# EAGLE library part LPC1517BJD48 (library lpclib)
LPC1517BJD48 First try at a LPC1517 chip for use in a motor driver Datasheet <http://www.nxp.com/documents/data_sheet/LPC15XX.pdf> User manual <http://www.nxp.com/documents/user_manual/UM10736.pdf>
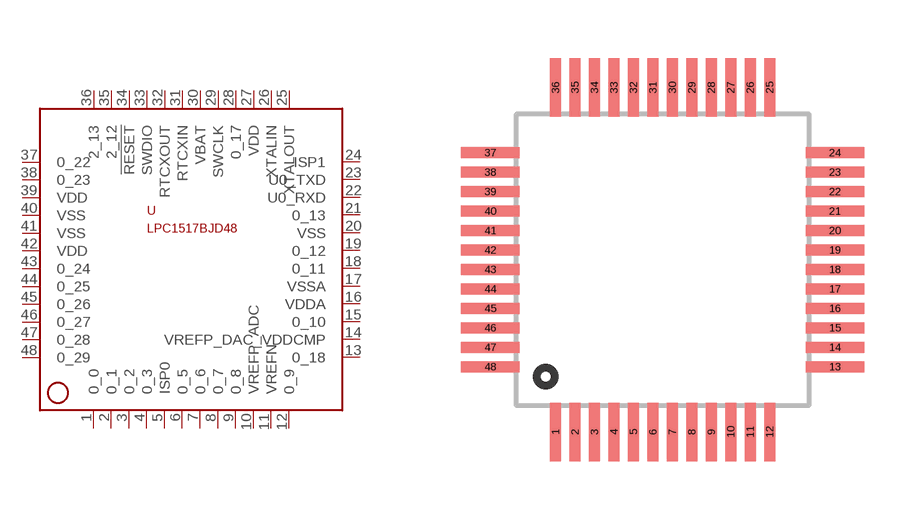
[diagram p0: symbol with the pads of LQFP48; footprint LQFP48]

Designator prefix -

## LPC1517BJD48  [LQFP48]
1  0_0
2  0_1
3  0_2
4  0_3
5  ISP0
6  0_5
7  0_6
8  0_7
9  0_8
10  VREFP_ADC  pwr
11  VREFN  pwr
12  0_9
13  0_18
14  VREFP_DAC_VDDCMP  pwr
15  0_10
16  VDDA  pwr
17  VSSA  pwr
18  0_11
19  0_12
20  VSS  pwr
21  0_13
22  U0_RXD
23  U0_TXD
24  ISP1
25  XTALOUT
26  XTALIN
27  VDD  pwr
28  0_17
29  SWCLK
30  VBAT  pwr
31  RTCXIN
32  RTCXOUT
33  SWDIO
34  !RESET
35  2_12
36  2_13
37  0_22
38  0_23
39  VDD  pwr
40  VSS  pwr
41  VSS  pwr
42  VDD  pwr
43  0_24
44  0_25
45  0_26
46  0_27
47  0_28
48  0_29

## Footprint LQFP48 (pad centres in mm)
LQFP48 for the NXP lpc1517 48pin chip Untested
smd 0.28 x 1.5: 1 -2.75,-4.425; 2 -2.25,-4.425; 3 -1.75,-4.425; 4 -1.25,-4.425; 5 -0.75,-4.425; 6 -0.25,-4.425; 7 0.25,-4.425; 8 0.75,-4.425; 9 1.25,-4.425; 10 1.75,-4.425; 11 2.25,-4.425; 12 2.75,-4.425; 25 2.75,4.425; 26 2.25,4.425; 27 1.75,4.425; 28 1.25,4.425; 29 0.75,4.425; 30 0.25,4.425; 31 -0.25,4.425; 32 -0.75,4.425; 33 -1.25,4.425; 34 -1.75,4.425; 35 -2.25,4.425; 36 -2.75,4.425
smd 1.5 x 0.28: 13 4.425,-2.75; 14 4.425,-2.25; 15 4.425,-1.75; 16 4.425,-1.25; 17 4.425,-0.75; 18 4.425,-0.25; 19 4.425,0.25; 20 4.425,0.75; 21 4.425,1.25; 22 4.425,1.75; 23 4.425,2.25; 24 4.425,2.75; 37 -4.425,2.75; 38 -4.425,2.25; 39 -4.425,1.75; 40 -4.425,1.25; 41 -4.425,0.75; 42 -4.425,0.25; 43 -4.425,-0.25; 44 -4.425,-0.75; 45 -4.425,-1.25; 46 -4.425,-1.75; 47 -4.425,-2.25; 48 -4.425,-2.75